# Altium schematic symbol library External_Target_SWD.SchLib: 1 symbol
Pins are listed as number, name and electrical type; pins without a type are passive.

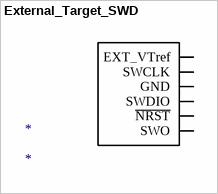
[diagram p0: symbol External_Target_SWD]

## External_Target_SWD
designator *
footprint External_Target_SWD
pins: 1 EXT_VTref, 2 SWCLK, 3 GND, 4 SWDIO, 5 ~{NRST}, 6 SWO